# Altium footprint library tssop.PcbLib: 1 footprints
Each footprint in its own frame and in the unit in brackets; x right, y up, seen from the top. Pads: shape width x height; smd on the part's side, far side on the other; paste and mask are expansions set on the pad; w line width, h text height; cw(c..) or ccw(c..) is an arc to the next point about the centre after c.
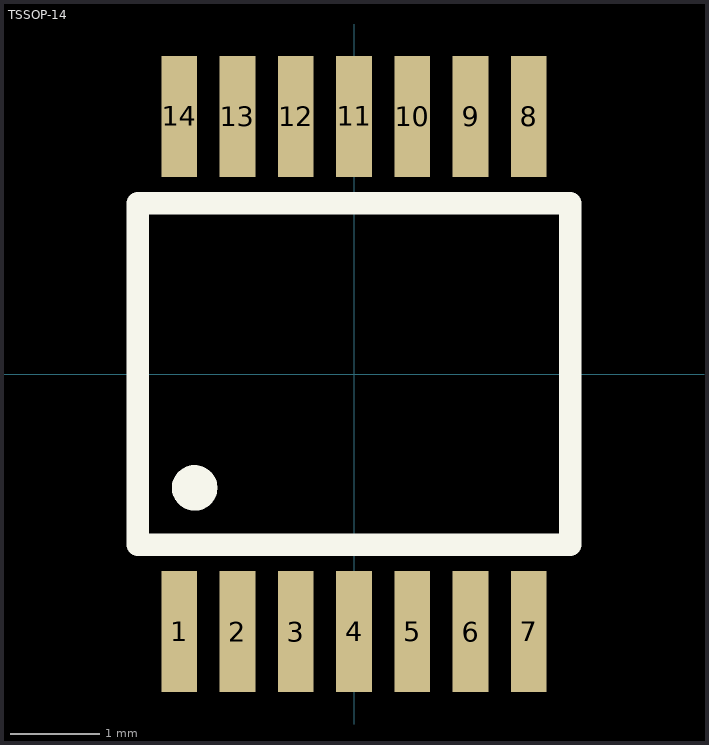
[diagram p0: the footprint, top view; thin cyan lines are the x and y axes]

## TSSOP-14 [mm]
pads (14):
  rect 0.4x1.35 smd: 1(-1.95,-2.875) 2(-1.3,-2.875) 3(-0.65,-2.875) 4(0,-2.875) 5(0.65,-2.875) 6(1.3,-2.875) 7(1.95,-2.875) 8(1.95,2.875) 9(1.3,2.875) 10(0.65,2.875) 11(0,2.875) 12(-0.65,2.875) 13(-1.3,2.875) 14(-1.95,2.875)
Top Overlay:
  circle w0.254: c-1.778,-1.27 r0.127
  lines w0.254: -2.413,-1.905 2.413,-1.905 2.413,1.905 -2.413,1.905 -2.413,-1.905
3D body "tssop-14.stp": height 1.15, standoff 0, extent -2.5,-3.2 2.5,3.2